# Altium integrated library pcie2displayport.IntLib: 10 symbols
Pins are listed as number, name and electrical type; pins without a type are passive.

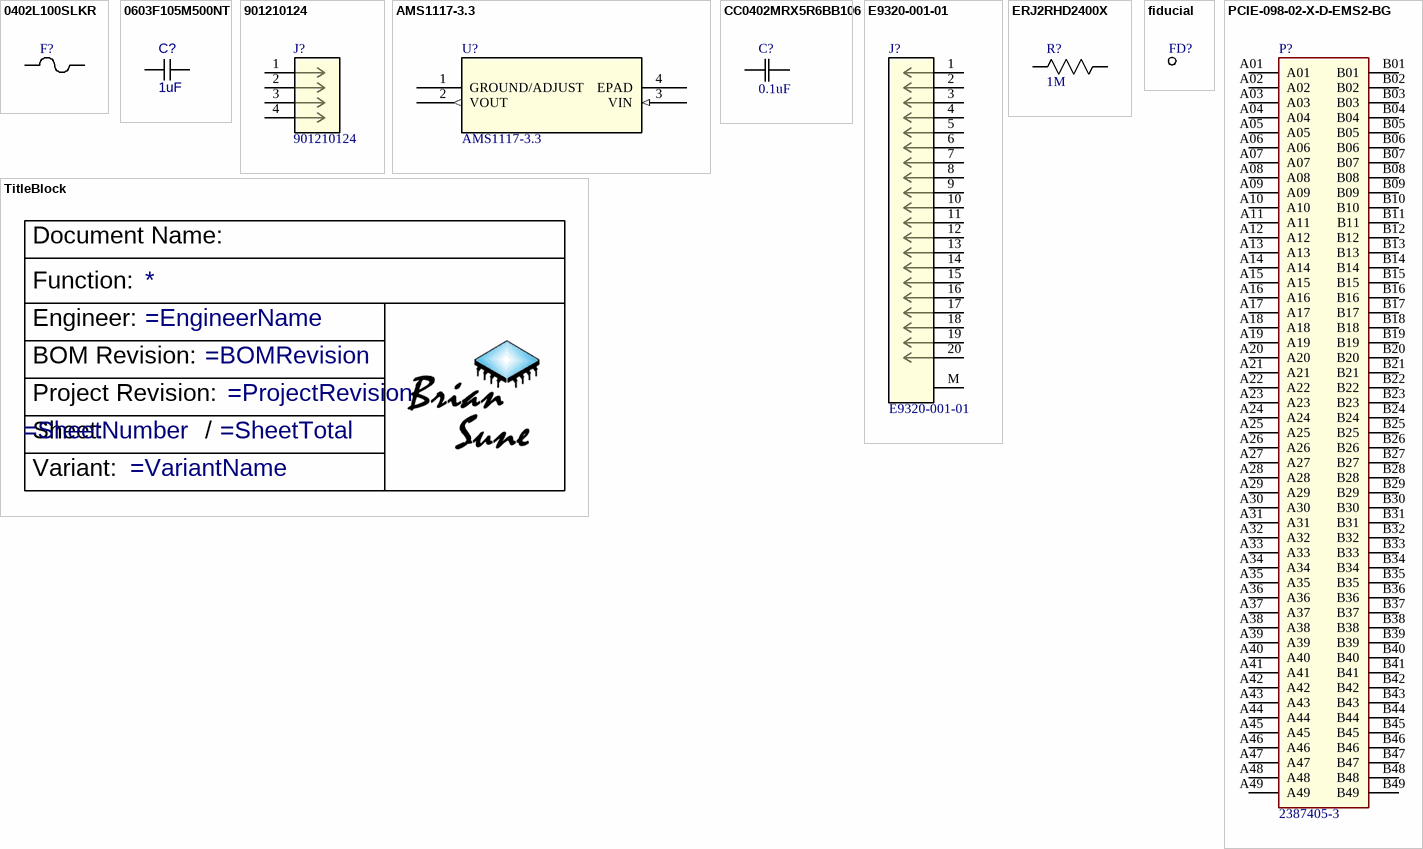
[diagram p0: symbols 0402L100SLKR to TitleBlock]

## 0402L100SLKR
designator F?
No Description Available; Mfr_Name: Littelfuse Inc; Manufacturer_Part_Number: 0402L100SLKR; Type: DEV; Copyright: Copyright (C) 2021 Ultra Librarian. All rights reserved.; RefDes: RefDes
footprint 0435Series_LTF
pins: 1, 2

## 0603F105M500NT
designator C?, comment 1uF
1uF(105) ±20% 50V X7R 0603F105M500NT; MP: C0603C104Z3VACTU; MF: KEMET; Package: 0603 Kemet; Price: None; Value: *; ComponentLink1Description: Taobao; ComponentLink1URL: https://item.taobao.com/item.htm?spm=a1z09.2.0.0.1e6b2e8dpr7A02&id=560896377413&_u=o10quk0k0a55
footprint *CAPC1608X90
pins: 1, 2

## 901210124
designator J?
No Description Available; Mfr_Name: Molex Connector Corporation; Copyright: Copyright (C) 2021 Ultra Librarian. All rights reserved.; Manufacturer_Part_Number: 901210124; RefDes: RefDes; Type: DEV
footprint CON_901210124
pins: 1, 2, 3, 4

## AMS1117-3.3
designator U?
No Description Available; Vendor: Advanced Monolithic Systems; Built_By: EMA_Matt; SourceLibrary: Advanced_Monolithic_Systems_10-16-2019; Copyright: Copyright (C) 2018 Accelerated Designs. All rights reserved; Manufacturer_Part_Number: AMS1117-3.3; RefDes: RefDes; Type: DEV
footprint SOT_AMS_ADS
pins: 1 GROUND/ADJUST, 2 VOUT (out), 3 VIN (in), 4 EPAD (power)

## CC0402MRX5R6BB106
designator C?, comment 0.1uF
No Description Available; Mfr_Name: Yageo; Manufacturer_Part_Number: CC0402MRX5R6BB106; Type: DEV; Copyright: Copyright (C) 2022 Ultra Librarian. All rights reserved.; RefDes: RefDes
footprint CAP_CC0402_YAG
pins: 1, 2

## E9320-001-01
designator J?
No Description Available; Mfr_Name: Pulse Electronics Corporation; Copyright: Copyright (C) 2022 Ultra Librarian. All rights reserved.; Manufacturer_Part_Number: E9320-001-01; RefDes: RefDes; Type: DEV
footprint CONN_E9320-001-01_PUL
pins: 1, 2, 3, 4, 5, 6, 7, 8, 9, 10, 11, 12, 13, 14, 15, 16, 17, 18, 19, 20, M

## ERJ2RHD2400X
designator R?, comment 1M
0402 1% Resistor; Manufacturer_Part_Number: ERJ2RHD2400X; Vendor: Panasonic; Built_By: EMA_UL_Team; SourceLibrary: Panasonic_2016-11-1; Copyright: Copyright (C) 2018 Accelerated Designs. All rights reserved; RefDes: RefDes; Type: DEV
footprint 0402_PAN
pins: 1, 2

## fiducial
designator FD?  (value not drawn)
footprint FD12D

## PCIE-098-02-X-D-EMS2-BG
designator P?, comment 2387405-3
PCIEG4,SMT,STRADDLE,98POS,G/F,O/E; MF: Samtec Inc.; MP: PCIE-098-02-X-D-EMS2-BG; Price: None; Availability: Unavailable; Value: *; Package: None
footprint PCIEG4,SMT,STRADDLE,98POS,G/F,O/E
pins: A01, A02, A03, A04, A05, A06, A07, A08, A09, A10, A11, A12, A13, A14, A15, A16, A17, A18, A19, A20, A21, A22, A23, A24, A25, A26, A27, A28, A29, A30, A31, A32, A33, A34, A35, A36, A37, A38, A39, A40, A41, A42, A43, A44, A45, A46, A47, A48, A49, B01, B02, B03, B04, B05, B06, B07, B08, B09, B10, B11, B12, B13, B14, B15, B16, B17, B18, B19, B20, B21, B22, B23, B24, B25, B26, B27, B28, B29, B30, B31, B32, B33, B34, B35, B36, B37, B38, B39, B40, B41, B42, B43, B44, B45, B46, B47, B48, B49

## TitleBlock
designator ??  (value not drawn)  (graphical)
Function: *
text: Document Name:; Function:; Engineer:; BOM Revision:; Project Revision:; Sheet:; /; Variant: